# EAGLE library part B14B-PUDSS-1 (library con-jst-pud)
JST connector, PUD series, 2.0mm spacing, crimp style, wire-to-board, 14 pin, top entry (with boss)
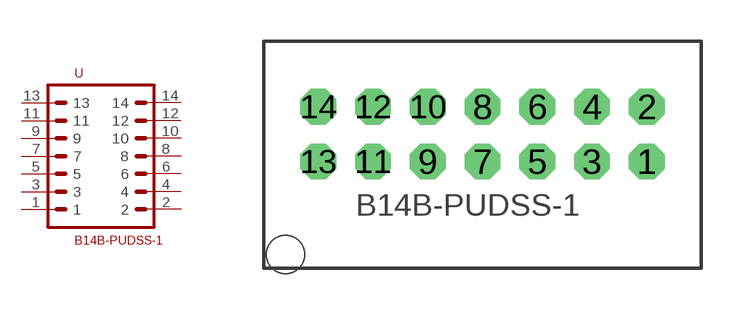
[diagram p11: symbol with the pads of PUD_14_PIN_TOP_ENTRY; footprint PUD_14_PIN_TOP_ENTRY]

Designator prefix -

## B14B-PUDSS-1 (DIGIKEY: 455-2502-ND; MF: JST; MPN: B14B-PUDSS-1)  [PUD_14_PIN_TOP_ENTRY]
1  1
2  2
3  3
4  4
5  5
6  6
7  7
8  8
9  9
10  10
11  11
12  12
13  13
14  14

## Footprint PUD_14_PIN_TOP_ENTRY (pad centres in mm)
drill 0.8 octagon: 1 6,0; 2 6,2; 3 4,0; 4 4,2; 5 2,0; 6 2,2; 7 0,0; 8 0,2; 9 -2,0; 10 -2,2; 11 -4,0; 12 -4,2; 13 -6,0; 14 -6,2
hole 1.4 at -7.2,-3.4